# Altium schematic symbol library TM4C1231.SchLib: 1 symbol
Pins are listed as number, name and electrical type; pins without a type are passive.

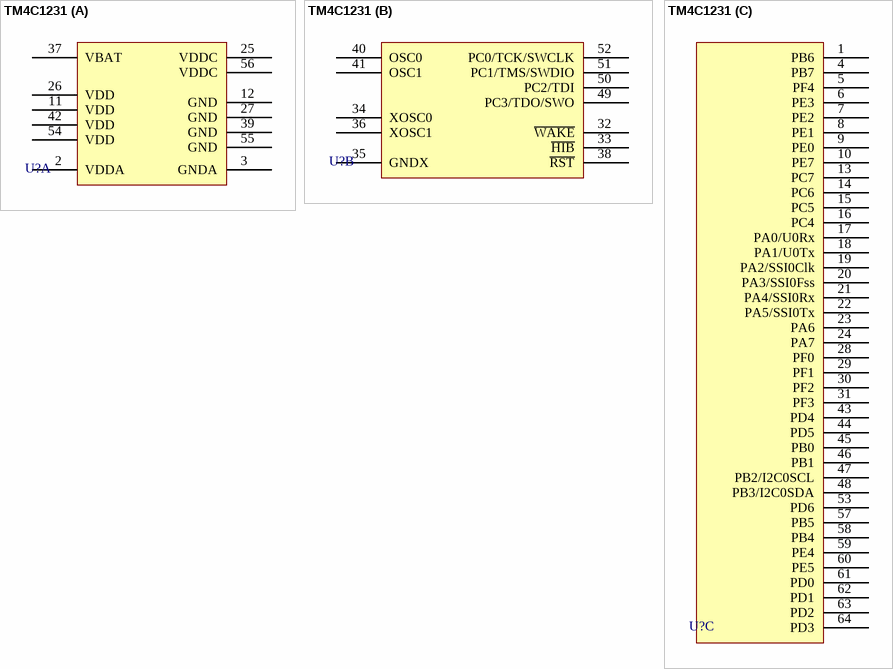
[diagram p0: symbol TM4C1231]

## TM4C1231
designator U?  (value not drawn)
MCU Tiva C-Series 64-Pin
part A pins: 2 VDDA, 3 GNDA, 11 VDD, 12 GND, 25 VDDC, 26 VDD, 27 GND, 37 VBAT, 39 GND, 42 VDD, 54 VDD, 55 GND, 56 VDDC
part B pins: 32 ~{WAKE}, 33 ~{HIB}, 34 XOSC0, 35 GNDX, 36 XOSC1, 38 ~{RST}, 40 OSC0, 41 OSC1, 49 PC3/TDO/SWO, 50 PC2/TDI, 51 PC1/TMS/SWDIO, 52 PC0/TCK/SWCLK
part C pins: 1 PB6, 4 PB7, 5 PF4, 6 PE3, 7 PE2, 8 PE1, 9 PE0, 10 PE7, 13 PC7, 14 PC6, 15 PC5, 16 PC4, 17 PA0/U0Rx, 18 PA1/U0Tx, 19 PA2/SSI0Clk, 20 PA3/SSI0Fss, 21 PA4/SSI0Rx, 22 PA5/SSI0Tx, 23 PA6, 24 PA7, 28 PF0, 29 PF1, 30 PF2, 31 PF3, 43 PD4, 44 PD5, 45 PB0, 46 PB1, 47 PB2/I2C0SCL, 48 PB3/I2C0SDA, 53 PD6, 57 PB5, 58 PB4, 59 PE4, 60 PE5, 61 PD0, 62 PD1, 63 PD2, 64 PD3